# EAGLE library part SYPS-2-22HP+ (library SYPS-2-22HP+)
RF Power Divider 2 MHz ~ 200 MHz Isolation (Min) 18dB, 1.45 VSWR (Max), 4 Imbalance (Max) 6-SMD, No Lead Source: Datasheet <https://www.minicircuits.com/pdfs/SYPS-2-22HP .pdf>
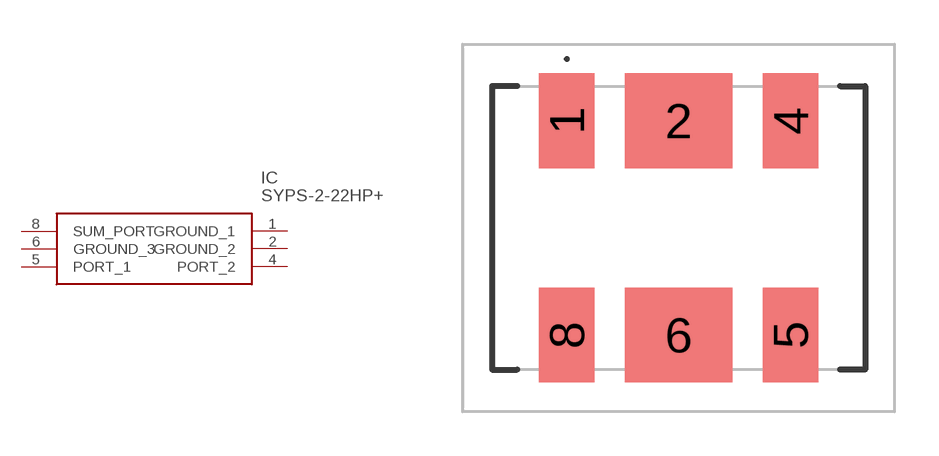
[diagram p0: symbol with the pads of SYPS222HP; footprint SYPS222HP]

Designator prefix IC

## SYPS-2-22HP+ (Description: RF Power Divider 2 MHz ~ 200 MHz Isolation (Min) 18dB, 1.45 VSWR (Max), 4 Imbalance (Max) 6-SMD, No Lead; Height: 6.35mm; Manufacturer_Name: Mini-Circuits; Manufacturer_Part_Number: SYPS-2-22HP+; Mouser_Part_Number: 139-SYPS-2-22HP; Mouser_Price-Stock: https://www.mouser.co.uk/ProductDetail/Mini-Circuits/SYPS-2-22HP%2b?qs=xZ%2FP%252Ba9zWqY1riY9ziwtAg%3D%3D)  [SYPS222HP]
1  GROUND_1
2  GROUND_2
4  PORT_2
5  PORT_1
6  GROUND_3
8  SUM_PORT

## Footprint SYPS222HP (pad centres in mm)
AH202-1
smd 1.88 x 3.226: 1 -3.81,3.645; 4 3.81,3.645; 5 3.81,-3.645; 8 -3.81,-3.645
smd 3.658 x 3.226: 2 0,3.645; 6 0,-3.645